# EAGLE library part DSPIC33EP128GP502 (library DSPIC33EP128GP502)
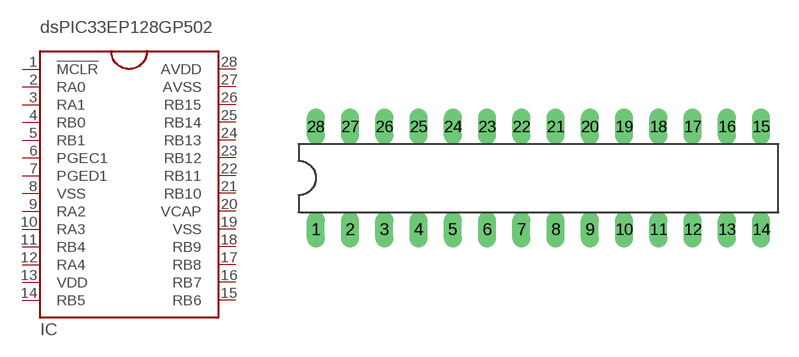
[diagram p0: symbol with the pads of DIL28; footprint DIL28]

Designator prefix IC

## DSPIC33EP128GP502  [DIL28]
1  !MCLR!
2  RA0
3  RA1
4  RB0
5  RB1
6  PGEC1
7  PGED1
8  VSS
9  RA2
10  RA3
11  RB4
12  RA4
13  VDD
14  RB5
15  RB6
16  RB7
17  RB8
18  RB9
19  VSS
20  VCAP
21  RB10
22  RB11
23  RB12
24  RB13
25  RB14
26  RB15
27  AVSS
28  AVDD

## Footprint DIL28 (pad centres in mm)
drill 0.813 long: 1 -16.51,-3.81; 2 -13.97,-3.81; 3 -11.43,-3.81; 4 -8.89,-3.81; 5 -6.35,-3.81; 6 -3.81,-3.81; 7 -1.27,-3.81; 8 1.27,-3.81; 9 3.81,-3.81; 10 6.35,-3.81; 11 8.89,-3.81; 12 11.43,-3.81; 13 13.97,-3.81; 14 16.51,-3.81; 15 16.51,3.81; 16 13.97,3.81; 17 11.43,3.81; 18 8.89,3.81; 19 6.35,3.81; 20 3.81,3.81; 21 1.27,3.81; 22 -1.27,3.81; 23 -3.81,3.81; 24 -6.35,3.81; 25 -8.89,3.81; 26 -11.43,3.81; 27 -13.97,3.81; 28 -16.51,3.81